# EAGLE library part 9601 (library dec-con)
DEC9601 monstable
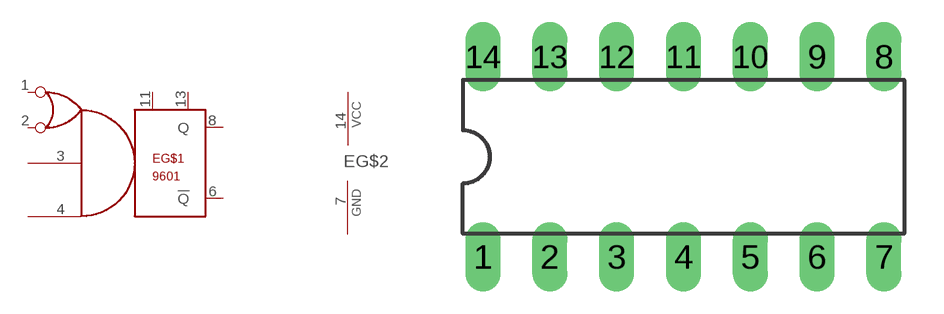
[diagram p4: symbol with the pads of DIL14; footprint DIL14]

Designator prefix E; gates G$1=9601 G$2=PWRN

## 9601  [DIL14]
1  G$1:P$1  in
2  G$1:P$2  in
3  G$1:P$3  in
4  G$1:P$4  in
6  G$1:!Q  out
7  G$2:GND  pwr
8  G$1:Q  out
11  G$1:P$5
13  G$1:P$6
14  G$2:VCC  pwr

## Footprint DIL14 (pad centres in mm)
Dual In Line Package
drill 0.813 long: 1 -7.62,-3.81; 2 -5.08,-3.81; 3 -2.54,-3.81; 4 0,-3.81; 5 2.54,-3.81; 6 5.08,-3.81; 7 7.62,-3.81; 8 7.62,3.81; 9 5.08,3.81; 10 2.54,3.81; 11 0,3.81; 12 -2.54,3.81; 13 -5.08,3.81; 14 -7.62,3.81